# Altium footprint library SR PCB Library V01.PcbLib: 402 footprints (part 2 of 26)
Each footprint in its own frame and in the unit in brackets; x right, y up, seen from the top. Pads: shape width x height; smd on the part's side, far side on the other; paste and mask are expansions set on the pad; w line width, h text height; cw(c..) or ccw(c..) is an arc to the next point about the centre after c.
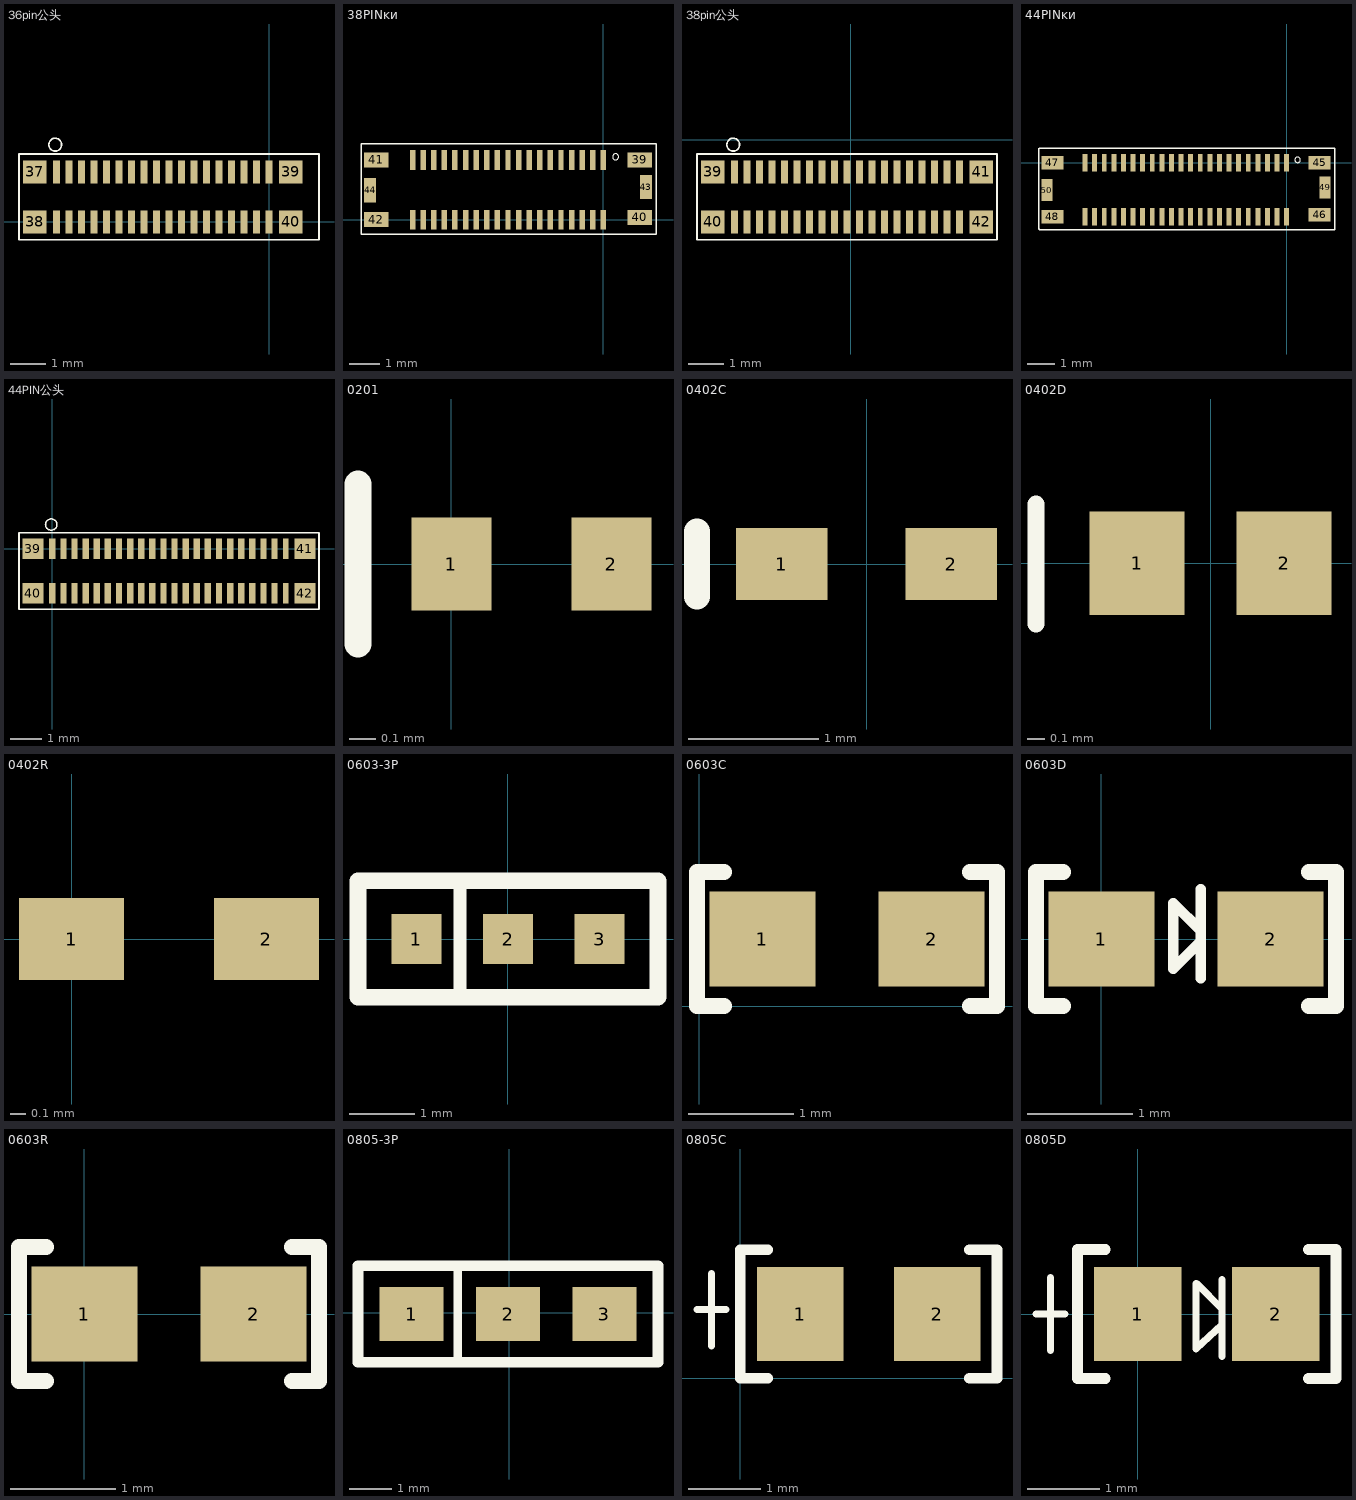
[diagram p1: the footprints below, top view; thin cyan lines are the x and y axes]

## 36pin公头 [mm]
height 11
pads (40):
  rect 0.2x0.65 smd: 1(-5.95,1.4) 2(-5.95,0) 3(-5.6,1.4) 4(-5.6,0) 5(-5.25,1.4) 6(-5.25,0) 7(-4.9,1.4) 8(-4.9,0) 9(-4.55,1.4) 10(-4.55,0) 11(-4.2,1.4) 12(-4.2,0) 13(-3.85,1.4) 14(-3.85,0) 15(-3.5,1.4) 16(-3.5,0) 17(-3.15,1.4) 18(-3.15,0) 19(-2.8,1.4) 20(-2.8,0) 21(-2.45,1.4) 22(-2.45,0) 23(-2.1,1.4) 24(-2.1,0) 25(-1.75,1.4) 26(-1.75,0) 27(-1.4,1.4) 28(-1.4,0) 29(-1.05,1.4) 30(-1.05,0) 31(-0.7,1.4) 32(-0.7,0) 33(-0.35,1.4) 34(-0.35,0) 35(0,1.4) 36(0,0)
  rect 0.65x0.65 smd: 37(-6.561,1.4) 38(-6.561,0) 39(0.607,1.4) 40(0.607,0)
Top Overlay:
  lines w0.05: -6.102,2.298 ccw(c-5.985,2.163) -6.1,2.3 ; -7,-0.5 1.4,-0.5 1.4,1.9 -7,1.9 -7,-0.5

## 38PINĸͷ [mm] "J?"
pads (44):
  rect 0.18x0.65 smd: 1(0,1.97) 2(0,0) 3(-0.35,1.97) 4(-0.35,0) 5(-0.7,1.97) 6(-0.7,0) 7(-1.05,1.97) 8(-1.05,0) 9(-1.4,1.97) 10(-1.4,0) 11(-1.75,1.97) 12(-1.75,0) 13(-2.1,1.97) 14(-2.1,0) 15(-2.45,1.97) 16(-2.45,0) 17(-2.8,1.97) 18(-2.8,0) 19(-3.15,1.97) 20(-3.15,0) 21(-3.5,1.97) 22(-3.5,0) 23(-3.85,1.97) 24(-3.85,0) 25(-4.2,1.97) 26(-4.2,0) 27(-4.55,1.97) 28(-4.55,0) 29(-4.9,1.97) 30(-4.9,0) 31(-5.25,1.97) 32(-5.25,0) 33(-5.6,1.97) 34(-5.6,0) 35(-5.95,1.97) 36(-5.95,0) 37(-6.3,1.97) 38(-6.3,0)
  rect 0.8x0.5 smd: 39(1.201,1.973) 40(1.201,0.073) 41(-7.5,1.97) 42(-7.5,0)
  rect 0.4x0.8 smd: 43(1.401,1.073) 44(-7.7,0.97)
Top Overlay:
  circle w0.02: c0.401,2.073 r0.1
  lines w0.05: -8,-0.477 1.751,-0.477 1.751,2.498 -8,2.498 -8,-0.477

## 38pin公头 [mm]
height 11
pads (42):
  rect 0.2x0.65 smd: 1(-3.25,-0.9) 2(-3.25,-2.3) 3(-2.9,-0.9) 4(-2.9,-2.3) 5(-2.55,-0.9) 6(-2.55,-2.3) 7(-2.2,-0.9) 8(-2.2,-2.3) 9(-1.85,-0.9) 10(-1.85,-2.3) 11(-1.5,-0.9) 12(-1.5,-2.3) 13(-1.15,-0.9) 14(-1.15,-2.3) 15(-0.8,-0.9) 16(-0.8,-2.3) 17(-0.45,-0.9) 18(-0.45,-2.3) 19(-0.1,-0.9) 20(-0.1,-2.3) 21(0.25,-0.9) 22(0.25,-2.3) 23(0.6,-0.9) 24(0.6,-2.3) 25(0.95,-0.9) 26(0.95,-2.3) 27(1.3,-0.9) 28(1.3,-2.3) 29(1.65,-0.9) 30(1.65,-2.3) 31(2,-0.9) 32(2,-2.3) 33(2.35,-0.9) 34(2.35,-2.3) 35(2.7,-0.9) 36(2.7,-2.3) 37(3.05,-0.9) 38(3.05,-2.3)
  rect 0.65x0.65 smd: 39(-3.861,-0.9) 40(-3.861,-2.3) 41(3.658,-0.9) 42(3.658,-2.301)
Top Overlay:
  lines w0.05: -3.402,-0.002 ccw(c-3.285,-0.137) -3.4,0 ; -4.3,-2.8 4.1,-2.8 4.1,-0.4 -4.3,-0.4 -4.3,-2.8

## 44PINĸͷ [mm]
pads (50):
  rect 0.18x0.65 smd: 1(0,0) 2(0,-1.97) 3(-0.35,0) 4(-0.35,-1.97) 5(-0.7,0) 6(-0.7,-1.97) 7(-1.05,0) 8(-1.05,-1.97) 9(-1.4,0) 10(-1.4,-1.97) 11(-1.75,0) 12(-1.75,-1.97) 13(-2.1,0) 14(-2.1,-1.97) 15(-2.45,0) 16(-2.45,-1.97) 17(-2.8,0) 18(-2.8,-1.97) 19(-3.15,0) 20(-3.15,-1.97) 21(-3.5,0) 22(-3.5,-1.97) 23(-3.85,0) 24(-3.85,-1.97) 25(-4.2,0) 26(-4.2,-1.97) 27(-4.55,0) 28(-4.55,-1.97) 29(-4.9,0) 30(-4.9,-1.97) 31(-5.25,0) 32(-5.25,-1.97) 33(-5.6,0) 34(-5.6,-1.97) 35(-5.95,0) 36(-5.95,-1.97) 37(-6.3,0) 38(-6.3,-1.97) 39(-6.65,0) 40(-6.65,-1.97) 41(-7,0) 42(-7,-1.97) 43(-7.35,0) 44(-7.35,-1.97)
  rect 0.8x0.5 smd: 45(1.201,0.003) 46(1.201,-1.897) 47(-8.54,0) 48(-8.54,-1.97)
  rect 0.4x0.8 smd: 49(1.401,-0.897) 50(-8.74,-1)
Top Overlay:
  circle w0.02: c0.401,0.103 r0.1
  lines w0.05: -9.04,0.528 -9.04,-2.41 -9.003,-2.447 1.751,-2.447 1.751,0.528 -9.03,0.528

## 44PIN公头 [mm]
pads (48):
  rect 0.2x0.65 smd: 1(0,0) 2(0,-1.4) 3(0.35,0) 4(0.35,-1.4) 5(0.7,0) 6(0.7,-1.4) 7(1.05,0) 8(1.05,-1.4) 9(1.4,0) 10(1.4,-1.4) 11(1.75,0) 12(1.75,-1.4) 13(2.1,0) 14(2.1,-1.4) 15(2.45,0) 16(2.45,-1.4) 17(2.8,0) 18(2.8,-1.4) 19(3.15,0) 20(3.15,-1.4) 21(3.5,0) 22(3.5,-1.4) 23(3.85,0) 24(3.85,-1.4) 25(4.2,0) 26(4.2,-1.4) 27(4.55,0) 28(4.55,-1.4) 29(4.9,0) 30(4.9,-1.4) 31(5.25,0) 32(5.25,-1.4) 33(5.6,0) 34(5.6,-1.4) 35(5.95,0) 36(5.95,-1.4) 37(6.3,0) 38(6.3,-1.4)
  rect 0.65x0.65 smd: 39(-0.611,0) 40(-0.611,-1.4) 41(7.958,0) 42(7.958,-1.401)
  rect 0.18x0.65 smd: 39(6.65,0) 40(6.65,-1.4) 41(7,0) 42(7,-1.4) 43(7.35,0) 44(7.35,-1.4)
Top Overlay:
  lines w0.05: -0.152,0.898 ccw(c-0.035,0.763) -0.15,0.9 ; 8.38,-1.9 -1.05,-1.9 -1.05,0.5 8.39,0.5 ; 8.4,-1.9 8.4,0.5

## 0201 [mm]
pads (2):
  rect 0.3x0.35 smd: 1(0,0) 2(0.6,0)
Top Overlay:
  lines w0.1: -0.35,-0.3 -0.35,0.3

## 0402C [mm] "Chip Capacitor; Body 1.0 x 0.5 mm (LxW typ)"
height 1.35
pads (2):
  rect 0.7x0.55 smd: 1(-0.65,0) 2(0.65,0)
Top Overlay:
  lines w0.2: -1.3,-0.25 -1.3,0.25

## 0402D [mm] "TVS"
pads (2):
  rect 0.55x0.6 smd: 1(-0.425,0) 2(0.425,0)
Top Overlay:
  lines w0.1: -1.01,-0.35 -1.01,0.34

## 0402R [mm] "Chip Capacitor; Body 1.0 x 0.5 mm (LxW typ)"
height 1.35
pads (2):
  rect 0.7x0.55 smd: 1(0,0) 2(1.3,0)

## 0603-3P [mil]
pads (3):
  rect 30x30 smd: 1(-55.06,0) 2(0.06,0) 3(55.06,0)
Top Overlay:
  lines w7.87: -28.74,-34.61 -28.74,35
  lines w10: 89,-35 -90.06,-35 -90.06,35 90,35 ; 90.06,-35 90.06,35

## 0603C [mm]
pads (2):
  rect 1x0.9 smd: 1(0.597,0.635) 2(2.197,0.635)
Top Overlay:
  lines w0.15: 0.231,0 -0.023,0 -0.023,1.27 0.231,1.27 ; 2.563,0 2.817,0 2.817,1.27 2.563,1.27

## 0603D [mm]
pads (2):
  rect 1x0.9 smd: 1(0,0) 2(1.6,0)
Top Overlay:
  lines w0.1: 0.94,-0.37 0.94,0.47 0.94,0.08 ; 0.94,0.08 0.68,0.34 0.68,-0.28 0.94,-0.02 0.94,0.08
  lines w0.15: -0.366,-0.635 -0.62,-0.635 -0.62,0.635 -0.366,0.635 ; 1.966,-0.635 2.22,-0.635 2.22,0.635 1.966,0.635

## 0603R [mm]
pads (2):
  rect 1x0.9 smd: 1(0,0) 2(1.6,0)
Top Overlay:
  lines w0.15: -0.366,-0.635 -0.62,-0.635 -0.62,0.635 -0.366,0.635 ; 1.966,-0.635 2.22,-0.635 2.22,0.635 1.966,0.635

## 0805-3P [mil]
pads (3):
  rect 60x50 smd: 1(-91,-1) 2(-1,-1) 3(89,-1)
Top Overlay:
  lines w7.87: -48.03,-45.21 -48.03,44
  lines w10: -141,-46 -141,44 139,44 139,-46 -141,-46

## 0805C [mm]
pads (2):
  rect 1.2x1.3 smd: 1(0.828,0.889) 2(2.728,0.889)
Top Overlay:
  lines w0.1: -0.6,0.95 -0.2,0.95 ; -0.4,0.45 -0.4,1.45
  lines w0.15: 0.381,0 0,0 0,1.778 0.381,1.778 ; 3.175,0 3.556,0 3.556,1.778 3.175,1.778

## 0805D [mm]
pads (2):
  rect 1.2x1.3 smd: 1(0,0) 2(1.9,0)
Top Overlay:
  lines w0.1: -1.4,0 -1,0 ; -1.2,-0.5 -1.2,0.5 ; 0.8,-0.47 0.8,-0.48 ; 1.16,-0.58 1.16,0.47 1.16,-0.15 ; 1.16,0.07 0.81,0.42 0.8,0.42 0.8,-0.48 ; 0.8,-0.48 1.16,-0.15 ; 0.8,-0.48 1.16,-0.15
  lines w0.15: -0.447,-0.889 -0.828,-0.889 -0.828,0.889 -0.447,0.889 ; 2.347,-0.889 2.728,-0.889 2.728,0.889 2.347,0.889